# EAGLE library part FFC-FPC-15POS (library daqcs)
15 Position FFC, FPC Connector Contacts, Top 0.039" (1.00mm) Surface Mount, Right Angle
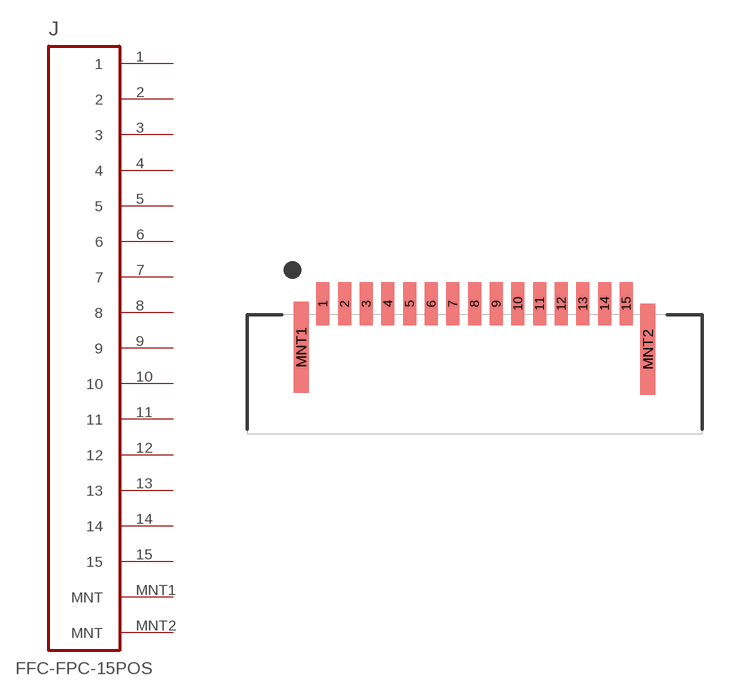
[diagram p26: symbol with the pads of FFC-FPC-100P060X200-15N; footprint FFC-FPC-100P060X200-15N]

Designator prefix J

## FFC-FPC-15POS_FFC15_SMT (CONTACT_LOCATION: TOP; DATASHEET: /Users/cschwab/Documents/School_Work/RIT_5/Fall_2016/MSD/git_repo/HW/docs/projects/raspi_zero_power_sensor_hat/datasheets/connectors/ffc_fpc/sfw12lf.pdf; FINISH: TIN; FLEX_TYPE: FFC,FPC; LOCKING: YES; MANUFACTURER: Amphenol; MANUFACTURER_PN: SFW15R-2STE1LF; MAX_CURRENT: 1.0A; MOUNT_ANGLE: RIGHT; MOUNT_TYPE: SMT; PITCH: 1.0mm; POSITIONS: 15; VALUE: FFC-FPC-15POS-TOP; VENDOR: Digi-key; VENDOR_PN: 609-1906-1-ND), FFC-FPC-15POS_FFC15_BOT_SMT (CONTACT_LOCATION: BOTTOM; DATASHEET: /Users/cschwab/Documents/School_Work/RIT_5/Fall_2016/MSD/git_repo/HW/docs/projects/raspi_zero_power_sensor_hat/datasheets/connectors/ffc_fpc/sfw12lf.pdf; FINISH: TIN; FLEX_TYPE: FFC,FPC; LOCKING: YES; MANUFACTURER: Amphenol; MANUFACTURER_PN: SFW15R-1STE1LF; MAX_CURRENT: 1.0A; MOUNT_ANGLE: RIGHT; MOUNT_TYPE: SMT; PITCH: 1.0mm; POSITIONS: 15; VALUE: FFC-FPC-15POS-BOT; VENDOR: Digi-key; VENDOR_PN: 609-1905-1-ND)  [FFC-FPC-100P060X200-15N]
1  1
2  2
3  3
4  4
5  5
6  6
7  7
8  8
9  9
10  10
11  11
12  12
13  13
14  14
15  15
MNT1  MNT
MNT2  MNT

## Footprint FFC-FPC-100P060X200-15N (pad centres in mm)
smd 0.6 x 2: 1 -7,6; 2 -6,6; 3 -5,6; 4 -4,6; 5 -3,6; 6 -2,6; 7 -1,6; 8 0,6; 9 1,6; 10 2,6; 11 3,6; 12 4,6; 13 5,6; 14 6,6; 15 7,6
smd 0.7 x 4.2: MNT1 -8,4; MNT2 8,3.9